# Altium schematic symbol library LM2577.SchLib: 1 symbol
Pins are listed as number, name and electrical type; pins without a type are passive.

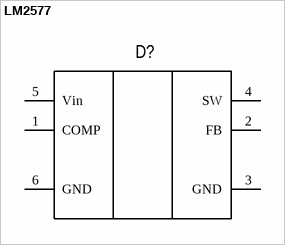
[diagram p0: symbol LM2577]

## LM2577
designator D?
pins: 1 COMP, 2 FB, 3 GND, 4 SW, 5 Vin, 6 GND